# Altium schematic symbol library CY7C68013_SOP56.SchLib: 1 symbol
Pins are listed as number, name and electrical type; pins without a type are passive.

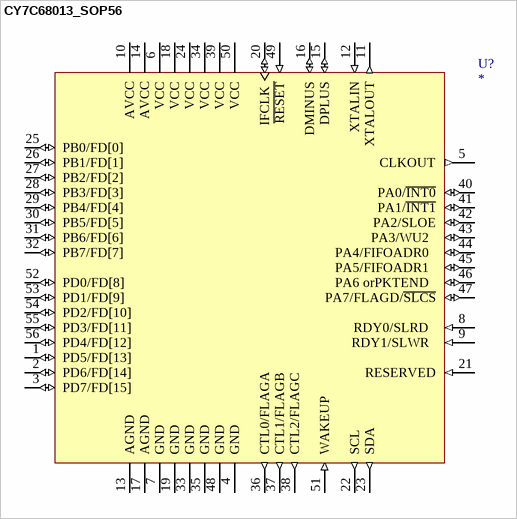
[diagram p0: symbol CY7C68013_SOP56]

## CY7C68013_SOP56
designator U?
pins: 1 PD5/FD[13]   (io) "Port D", 2 PD6/FD[14]   (io) "Port D", 3 PD7/FD[15]   (io) "Port D", 4 GND (power), 5 CLKOUT (out), 6 VCC (power), 7 GND (power), 8  RDY0/SLRD   (in), 9  RDY1/SLWR   (in), 10 AVCC (power), 11 XTALOUT (out), 12 XTALIN (in), 13 AGND (power), 14 AVCC (power), 15 DPLUS (io), 16 DMINUS (io), 17 AGND (power), 18 VCC (power), 19 GND (power), 20  IFCLK (io), 21 RESERVED (in), 22 SCL (out), 23 SDA (out), 24 VCC (power), 25 PB0/FD[0]   (io) "Port B", 26 PB1/FD[1]   (io) "Port B", 27 PB2/FD[2]   (io) "Port B", 28 PB3/FD[3]   (io) "Port B", 29 PB4/FD[4]   (io) "Port B", 30 PB5/FD[5]   (io) "Port B", 31 PB6/FD[6]   (io) "Port B", 32 PB7/FD[7]   (io) "Port B", 33 GND (power), 34 VCC (power), 35 GND (power), 36 CTL0/FLAGA   (out), 37 CTL1/FLAGB   (out), 38 CTL2/FLAGC   (out), 39 VCC (power), 40 PA0/~{INT0} (io) "Port A", 41 PA1/~{INT1} (io) "Port A", 42 PA2/SLOE (io) "Port A", 43 PA3/WU2   (io) "Port A", 44 PA4/FIFOADR0   (io) "Port A", 45 PA5/FIFOADR1   (io) "Port A", 46 PA6 orPKTEND   (io) "Port A", 47 PA7/FLAGD/~{SLCS} (io) "Port A", 48 GND (power), 49 ~{RESET} (in), 50 VCC (power), 51 WAKEUP (in), 52 PD0/FD[8]   (io) "Port D", 53 PD1/FD[9]   (io) "Port D", 54 PD2/FD[10]   (io) "Port D", 55 PD3/FD[11]   (io) "Port D", 56 PD4/FD[12]   (io) "Port D"